# Altium schematic symbol library NRF52840-QIAA-R7.SchLib: 1 symbol
Pins are listed as number, name and electrical type; pins without a type are passive.

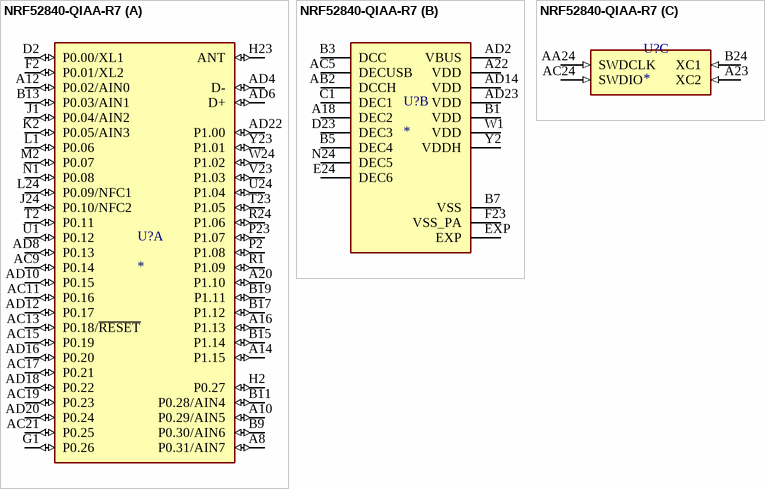
[diagram p0: symbol NRF52840-QIAA-R7]

## NRF52840-QIAA-R7
designator U?
IC RF TxRx + MCU 802.15.4, Bluetooth Bluetooth v5.0, Thread, ZigbeeÂ® 2.4GHz 73-VFQFN Dual Rows, Exposed Pad; MF: Nordic Semiconductor; MP: NRF52840-QIAA-R7; Package: QFN-73 Nordic Semiconductor; Price: None; Check_prices: https://www.snapeda.com/parts/NRF52840-QIAA-R7/Nordic+Semiconductor/view-part/?ref=eda; Value: *; SnapEDA_Link: https://www.snapeda.com/parts/NRF52840-QIAA-R7/Nordic+Semiconductor/view-part/?ref=snap; Availability: In Stock; Purchase-URL: https://pricing.snapeda.com/search?q=NRF52840-QIAA-R7&ref=eda
footprint NORDIC_NRF52840-QIAA-R7
part A pins: A8 P0.31/AIN7 (io), A10 P0.29/AIN5 (io), A12 P0.02/AIN0 (io), A14 P1.15 (io), A16 P1.13 (io), A20 P1.10 (io), AC9 P0.14 (io), AC11 P0.16 (io), AC13 P0.18/~{RESET} (io), AC15 P0.19 (io), AC17 P0.21 (io), AC19 P0.23 (io), AC21 P0.25 (io), AD4 D- (io), AD6 D+ (io), AD8 P0.13 (io), AD10 P0.15 (io), AD12 P0.17 (io), AD16 P0.20 (io), AD18 P0.22 (io), AD20 P0.24 (io), AD22 P1.00 (io), B9 P0.30/AIN6 (io), B11 P0.28/AIN4 (io), B13 P0.03/AIN1 (io), B15 P1.14 (io), B17 P1.12 (io), B19 P1.11 (io), D2 P0.00/XL1 (io), F2 P0.01/XL2 (io), G1 P0.26 (io), H2 P0.27 (io), H23 ANT (io), J1 P0.04/AIN2 (io), J24 P0.10/NFC2 (io), K2 P0.05/AIN3 (io), L1 P0.06 (io), L24 P0.09/NFC1 (io), M2 P0.07 (io), N1 P0.08 (io), P2 P1.08 (io), P23 P1.07 (io), R1 P1.09 (io), R24 P1.06 (io), T2 P0.11 (io), T23 P1.05 (io), U1 P0.12 (io), U24 P1.04 (io), V23 P1.03 (io), W24 P1.02 (io), Y23 P1.01 (io)
part B pins: A18 DEC2 (power), A22 VDD (power), AB2 DCCH (power), AC5 DECUSB (power), AD2 VBUS (power), AD14 VDD (power), AD23 VDD (power), B1 VDD (power), B3 DCC (power), B5 DEC4 (power), B7 VSS (power), C1 DEC1 (power), D23 DEC3 (power), E24 DEC6 (power), EXP (power), F23 VSS_PA (power), N24 DEC5 (power), W1 VDD (power), Y2 VDDH (power)
part C pins: A23 XC2 (in), AA24 SWDCLK (in), AC24 SWDIO (in), B24 XC1 (in)